# Altium schematic symbol library 505110-2291.SchLib: 1 symbol
Pins are listed as number, name and electrical type; pins without a type are passive.

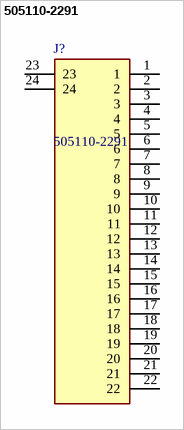
[diagram p0: symbol 505110-2291]

## 505110-2291
designator J?
MOLEX - 505110-2291 - CONNECTOR, FFC/FPC, RCPT, 22POS, 1ROW; Geometry.Height: 3.95mm; Mouser Part Number: 538-505110-2291; Mouser Price/Stock: https://www.mouser.co.uk/ProductDetail/Molex/505110-2291?qs=fSIr1QPo%2F%2FR7YZ33K34k0A%3D%3D; Manufacturer_Name: Molex; Manufacturer_Part_Number: 505110-2291; Datasheet Link: https://datasheet.datasheetarchive.com/originals/distributors/Datasheets_SAMA/b28bd963ea1e683f48254479215f537a.pdf
footprint 5051102291
pins: 1, 2, 3, 4, 5, 6, 7, 8, 9, 10, 11, 12, 13, 14, 15, 16, 17, 18, 19, 20, 21, 22, 23, 24